# Altium schematic symbol library ActiveComponents.SchLib: 1 symbol
Pins are listed as number, name and electrical type; pins without a type are passive.

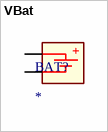
[diagram p0: symbol VBat]

## VBat
designator BAT?
footprint Vbat
pins: 1 VCC, 2 GND
text: +